# Altium footprint library CANTRICK.PcbLib: 29 footprints (part 1 of 2)
Each footprint in its own frame and in the unit in brackets; x right, y up, seen from the top. Pads: shape width x height; smd on the part's side, far side on the other; paste and mask are expansions set on the pad; w line width, h text height; cw(c..) or ccw(c..) is an arc to the next point about the centre after c.
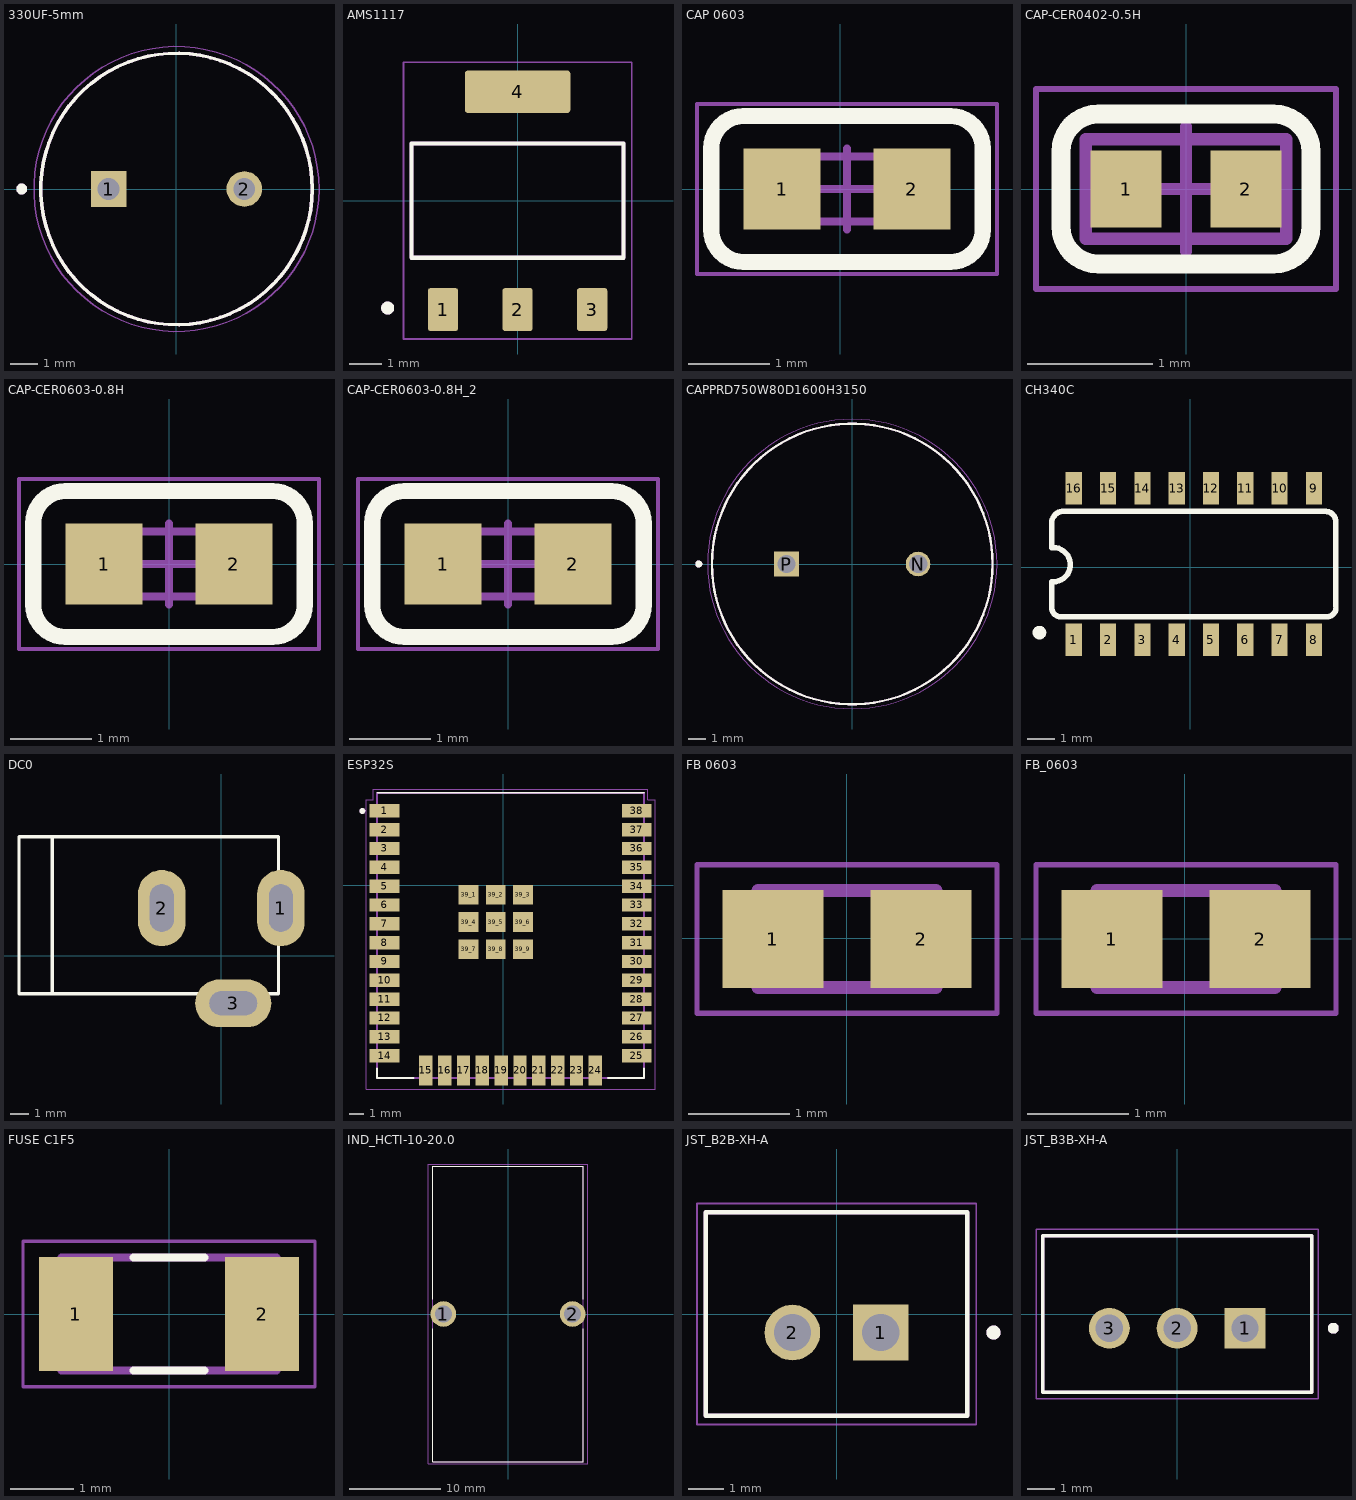
[diagram p0: the footprints below, top view; thin cyan lines are the x and y axes]

## 330UF-5mm [mm]
pads (2):
  rect 1.308x1.308 / inner round 1.308 / far side rect 1.308x1.308 hole 0.8: 1(-2.5,0)
  round 1.308 hole 0.8: 2(2.5,0)
Top Overlay:
  circle w0.2: c-5.7,0 r0.1
  circle w0.127: c0,0 r5
Top Assembly:
  circle w0.2: c-5.7,0 r0.1
  circle w0.127: c0,0 r5
Mechanical 15:
  circle w0.05: c0,0 r5.25
3D body "step_temp.STEP": height 20, standoff -19, extent -5,-4.996 5,4.996

## AMS1117 [mm]
pads (4):
  rrect15% 0.93x1.31 smd: 1(-2.29,-3.345) 2(0,-3.345) 3(2.29,-3.345)
  rrect15% 3.24x1.31 smd: 4(0,3.345)
Top Overlay:
  circle w0.2: c-3.99,-3.3 r0.1
  lines w0.127: -3.253,-1.753 -3.253,1.753 3.253,1.753 3.253,-1.753 -3.253,-1.753
Top Assembly:
  circle w0.2: c-3.99,-3.3 r0.1
  lines w0.127: -3.253,-1.753 -3.253,1.753 3.253,1.753 3.253,-1.753 -3.253,-1.753
Mechanical 15:
  lines w0.05: -3.502,-4.25 -3.502,4.25 3.502,4.25 3.502,-4.25 -3.502,-4.25
3D body "step_temp.STEP": height 1.8, standoff 0, extent -3.251,-3.499 3.251,3.499

## CAP 0603 [mm]
pads (2):
  rect 0.95x1 smd: 1(-0.715,0) 2(0.885,0)
Top Overlay:
  lines w0.2: -1.59,-0.5 ccw(c-1.19,-0.5) -1.19,-0.9 1.36,-0.9 ccw(c1.36,-0.5) 1.76,-0.5 1.76,0.5 ccw(c1.36,0.5) 1.36,0.9 -1.19,0.9 ccw(c-1.19,0.5) -1.59,0.5 -1.59,-0.5
Bottom 3D Body:
  lines w0.05: -1.765,-1.05 1.935,-1.05 1.935,1.05 -1.765,1.05 -1.765,-1.05
  lines w0.1: -0.415,0 0.585,0 ; 0.085,-0.5 0.085,0.5
Top Value:
  lines w0.1: -0.715,-0.4 0.885,-0.4 0.885,0.4 -0.715,0.4 -0.715,-0.4
  text "'.Comment'" at -3.427,-0.512 h1.6
Top Assembly:
  lines w0.1: -0.715,-0.4 0.885,-0.4 0.885,0.4 -0.715,0.4 -0.715,-0.4
  text "'.Designator'" at -3.787,-0.362 h1.6
3D body "Ceramic_Capacitor_0603_h32mil_Solder.step": height 0.82, standoff 0, extent -1.19,-0.5 1.36,0.5

## CAP-CER0402-0.5H [mm]
pads (2):
  rect 0.57x0.62 smd: 1(-0.48,0) 2(0.48,0)
Top Overlay:
  lines w0.152: -1,-0.3 ccw(c-0.7,-0.3) -0.7,-0.6 0.7,-0.6 ccw(c0.7,-0.3) 1,-0.3 1,0.3 ccw(c0.7,0.3) 0.7,0.6 -0.7,0.6 ccw(c-0.7,0.3) -1,0.3 -1,-0.3
Top Courtyard:
  lines w0.05: -1.2,-0.8 -1.2,0.8 1.2,0.8 1.2,-0.8 -1.2,-0.8
  lines w0.1: -0.5,0 0.5,0 ; 0,-0.5 0,0.5
Top Value:
  lines w0.1: -0.8,-0.4 0.8,-0.4 0.8,0.4 -0.8,0.4 -0.8,-0.4
  text "'.Comment'" at -3.512,-0.512 h1.6
Top Assembly:
  lines w0.1: -0.8,-0.4 0.8,-0.4 0.8,0.4 -0.8,0.4 -0.8,-0.4
  text "'.Designator'" at -3.872,-0.362 h1.6
Mechanical 20:
  lines w0.1: -0.8,-0.4 0.8,-0.4 0.8,0.4 -0.8,0.4 -0.8,-0.4
  text "'.Designator'" at -3.872,-0.362 h1.6
3D body "Ceramic_Capacitor_0402_h20mil_Solder.step": height 0.54, standoff 0.01, extent -0.8,-0.325 0.8,0.325

## CAP-CER0603-0.8H [mm]
pads (2):
  rect 0.95x1 smd: 1(-0.8,0) 2(0.8,0)
Top Overlay:
  lines w0.2: -1.675,-0.5 ccw(c-1.275,-0.5) -1.275,-0.9 1.275,-0.9 ccw(c1.275,-0.5) 1.675,-0.5 1.675,0.5 ccw(c1.275,0.5) 1.275,0.9 -1.275,0.9 ccw(c-1.275,0.5) -1.675,0.5 -1.675,-0.5
Top Courtyard:
  lines w0.05: -1.85,-1.05 -1.85,1.05 1.85,1.05 1.85,-1.05 -1.85,-1.05
  lines w0.1: -0.5,0 0.5,0 ; 0,-0.5 0,0.5
Top Value:
  lines w0.1: -0.8,-0.4 -0.8,0.4 0.8,0.4 0.8,-0.4 -0.8,-0.4
  text "'.Comment'" at -3.512,-0.512 h1.6
Top Assembly:
  lines w0.1: -0.8,-0.4 -0.8,0.4 0.8,0.4 0.8,-0.4 -0.8,-0.4
  text "'.Designator'" at -3.872,-0.362 h1.6
Mechanical 20:
  lines w0.1: -0.8,-0.4 -0.8,0.4 0.8,0.4 0.8,-0.4 -0.8,-0.4
  text "'.Designator'" at -3.872,-0.362 h1.6
3D body "Ceramic_Capacitor_0603_h32mil_Solder.step": height 0.84, standoff 0.03, extent -1.275,-0.5 1.275,0.5

## CAP-CER0603-0.8H_2 [mm]
pads (2):
  rect 0.95x1 smd: 1(-0.8,0) 2(0.8,0)
Top Overlay:
  lines w0.2: -1.675,-0.5 ccw(c-1.275,-0.5) -1.275,-0.9 1.275,-0.9 ccw(c1.275,-0.5) 1.675,-0.5 1.675,0.5 ccw(c1.275,0.5) 1.275,0.9 -1.275,0.9 ccw(c-1.275,0.5) -1.675,0.5 -1.675,-0.5
Top Courtyard:
  lines w0.05: -1.85,-1.05 1.85,-1.05 1.85,1.05 -1.85,1.05 -1.85,-1.05
  lines w0.1: -0.5,0 0.5,0 ; 0,-0.5 0,0.5
Top Value:
  lines w0.1: -0.8,-0.4 0.8,-0.4 0.8,0.4 -0.8,0.4 -0.8,-0.4
  text "'.Comment'" at -3.512,-0.512 h1.6
Top Assembly:
  lines w0.1: -0.8,-0.4 0.8,-0.4 0.8,0.4 -0.8,0.4 -0.8,-0.4
  text "'.Designator'" at -3.872,-0.362 h1.6
Mechanical 20:
  lines w0.1: -0.8,-0.4 0.8,-0.4 0.8,0.4 -0.8,0.4 -0.8,-0.4
  text "'.Designator'" at -3.872,-0.362 h1.6
3D body "Ceramic_Capacitor_0603_h32mil_Solder.step": height 0.84, standoff 0.03, extent -1.275,-0.5 1.275,0.5

## CAPPRD750W80D1600H3150 [mm]
pads (2):
  round 1.4 hole 1.05: N(3.75,0)
  rect 1.4x1.4 hole 1.05: P(-3.75,0)
Top Overlay:
  circle w0.2: c-8.75,0 r0.1
  circle w0.127: c0,0 r8
Top Assembly:
  circle w0.2: c-8.75,0 r0.1
  circle w0.127: c0,0 r8
Mechanical 15:
  circle w0.05: c0,0 r8.25
3D body "step_temp.STEP": height 31.5, standoff -17, extent -8,-7.999 8,7.999

## CH340C [mm]
pads (16):
  rect 0.6x1.2 smd: 1(-4.318,-2.673) 2(-3.048,-2.673) 3(-1.778,-2.673) 4(-0.508,-2.673) 5(0.762,-2.673) 6(2.032,-2.673) 7(3.302,-2.673) 8(4.572,-2.673) 9(4.572,2.927) 10(3.302,2.927) 11(2.032,2.927) 12(0.762,2.927) 13(-0.508,2.927) 14(-1.778,2.927) 15(-3.048,2.927) 16(-4.318,2.927)
Top Overlay:
  circle w0.254: c-5.588,-2.413 r0.127
  lines w0.203: -5.13,-1.541 ccw(c-4.8,-1.488) -4.747,-1.819 ; -5.131,-1.538 -5.131,-0.533 ; -5.131,0.737 -5.131,1.58 ; -5.13,1.59 cw(c-4.7,1.642) -4.753,2.073 ; -5.08,-0.533 ccw(c-5.08,0.102) -5.08,0.737 ; -4.75,-1.819 5.104,-1.819 ; -4.75,2.073 5.004,2.073 cw(c5.004,1.692) 5.385,1.692 5.385,-1.438 ; 5.106,-1.819 ccw(c5.054,-1.488) 5.384,-1.436
Top Assembly:
  region: 4.826,2.413 4.318,2.413 4.318,3.429 4.826,3.429
  region: 3.556,2.413 3.048,2.413 3.048,3.429 3.556,3.429
  region: 2.286,2.413 1.778,2.413 1.778,3.429 2.286,3.429
  region: 1.016,2.413 0.508,2.413 0.508,3.429 1.016,3.429
  region: -0.254,2.413 -0.762,2.413 -0.762,3.429 -0.254,3.429
  region: -1.524,2.413 -2.032,2.413 -2.032,3.429 -1.524,3.429
  region: -2.794,2.413 -3.302,2.413 -3.302,3.429 -2.794,3.429
  region: -4.064,2.413 -4.572,2.413 -4.572,3.492 -4.064,3.492
  region: 4.826,-3.175 4.318,-3.175 4.318,-2.146 4.826,-2.146
  region: 3.556,-3.175 3.048,-3.175 3.048,-2.146 3.556,-2.146
  region: 2.286,-3.175 1.778,-3.175 1.778,-2.146 2.286,-2.146
  region: 1.016,-3.175 0.508,-3.175 0.508,-2.146 1.016,-2.146
  region: -0.254,-3.175 -0.762,-3.175 -0.762,-2.146 -0.254,-2.146
  region: -1.524,-3.175 -2.032,-3.175 -2.032,-2.146 -1.524,-2.146
  region: -2.794,-3.175 -3.302,-3.175 -3.302,-2.146 -2.794,-2.146
  region: -4.064,-3.175 -4.572,-3.175 -4.572,-2.146 -4.064,-2.146
3D body "step_temp.STEP": height 1.8, standoff 0, extent -4.873,-2.873 5.127,3.127

## DC0 [mil]
pads (3):
  oval 100x160 hole 50 slot 100 at 90 deg: 1(125,100) 2(-125,100)
  oval 160x100 hole 50 slot 100 at 0 deg: 3(25,-100)
Top Overlay:
  lines w7: -355,-80 -355,250 ; -425,-80 120,-80 120,250 -425,250 -425,-80
3D body "SW3dPS-dc range - dc connector[4840.2201].STEP": height 433.67, standoff -137.2, extent -410.35,-105.11 134,269.12

## ESP32S [mm]
pads (47):
  rect 2x0.9 smd: 1(-7.992,5.006) 2(-7.992,3.736) 3(-7.992,2.466) 4(-7.992,1.196) 5(-7.992,-0.074) 6(-7.992,-1.344) 7(-7.992,-2.614) 8(-7.992,-3.884) 9(-7.992,-5.154) 10(-7.992,-6.424) 11(-7.992,-7.694) 12(-7.992,-8.964) 13(-7.992,-10.234) 14(-7.992,-11.504) 25(9.008,-11.504) 26(9.008,-10.234) 27(9.008,-8.964) 28(9.008,-7.694) 29(9.008,-6.424) 30(9.008,-5.154) 31(9.008,-3.884) 32(9.008,-2.614) 33(9.008,-1.344) 34(9.008,-0.074) 35(9.008,1.196) 36(9.008,2.466) 37(9.008,3.736) 38(9.008,5.006)
  rect 0.9x2 smd: 15(-5.207,-12.504) 16(-3.937,-12.504) 17(-2.667,-12.504) 18(-1.397,-12.504) 19(-0.127,-12.504) 20(1.143,-12.504) 21(2.413,-12.504) 22(3.683,-12.504) 23(4.953,-12.504) 24(6.223,-12.504)
  rect 1.33x1.33 smd: 39_1(-2.327,-0.659) 39_2(-0.492,-0.659) 39_3(1.343,-0.659) 39_4(-2.327,-2.494) 39_5(-0.492,-2.494) 39_6(1.343,-2.494) 39_7(-2.327,-4.329) 39_8(-0.492,-4.329) 39_9(1.343,-4.329)
Top Overlay:
  circle w0.2: c-9.492,4.996 r0.1
  lines w0.127: -8.492,-12.354 -8.492,-13.004 -6.042,-13.004 ; -8.475,6.223 9.525,6.223 ; 7.058,-13.004 9.508,-13.004 9.508,-12.354
Top Assembly:
  circle w0.2: c-9.492,4.996 r0.1
  lines w0.127: -8.492,6.196 9.508,6.196 ; -8.492,6.196 -8.492,-13.004 9.508,-13.004 9.508,6.196 ; -8.492,6.196 9.508,6.196
Mechanical 15:
  lines w0.05: -9.242,-13.754 10.258,-13.754 10.258,5.746 9.758,5.746 9.758,6.477 -8.742,6.477 -8.742,5.746 -9.242,5.746 -9.242,-13.754
3D body "ESP32WROOM32UEN8--3DModel-STEP-269445.STEP": height 3.35, standoff 0, extent -8.492,-13.028 9.508,6.172

## FB 0603 [mm]
pads (2):
  rect 1x0.97 smd: 1(-0.733,-0.006) 2(0.737,-0.006)
Top Assembly:
  lines w0.127: -0.878,-0.486 -0.878,0.474 0.882,0.474 0.882,-0.486 -0.878,-0.486
Mechanical 15:
  lines w0.05: -1.483,-0.741 -1.483,0.729 1.487,0.729 1.487,-0.741 -1.483,-0.741
3D body "BLM18KG121TN1D.STEP": height 0.75, standoff 0, extent -0.788,-0.361 0.812,0.439

## FB_0603 [mm]
pads (2):
  rect 1x0.97 smd: 1(-0.723,-0.002) 2(0.747,-0.002)
Top Assembly:
  lines w0.127: -0.868,-0.482 -0.868,0.478 0.892,0.478 0.892,-0.482 -0.868,-0.482
Mechanical 15:
  lines w0.05: -1.473,-0.737 -1.473,0.733 1.497,0.733 1.497,-0.737 -1.473,-0.737
3D body "BLM18KG121TN1D.STEP": height 0.75, standoff 0, extent -0.778,-0.357 0.822,0.443

## FUSE C1F5 [mm]
pads (2):
  rect 1.17x1.8 smd: 1(-1.47,0) 2(1.47,0)
Top Overlay:
  lines w0.127: -0.56,-0.89 0.56,-0.89 ; -0.56,0.89 0.56,0.89
Top Assembly:
  lines w0.127: -1.7,-0.89 -1.7,0.89 1.7,0.89 1.7,-0.89 -1.7,-0.89
Mechanical 15:
  lines w0.05: -2.305,-1.15 -2.305,1.15 2.305,1.15 2.305,-1.15 -2.305,-1.15
3D body "C1F 5.step": height 0.8, standoff -0.03, extent -1.652,-0.8 1.548,0.78

## IND_HCTI-10-20.0 [mm]
height 32.51
pads (2):
  round 2.82 hole 1.88: 1(-7.112,0) 2(7.112,0)
Top Overlay:
  lines w0.127: -8.255,-1.6 -8.255,-16.256 8.255,-16.256 8.255,-1.6 ; -8.255,1.6 -8.255,16.256 8.255,16.256 8.255,1.6
Top Assembly:
  lines w0.127: -8.255,-16.256 8.255,-16.256 8.255,16.256 -8.255,16.256 -8.255,-16.256
Mechanical 15:
  lines w0.05: -8.78,-16.506 8.78,-16.506 8.78,16.506 -8.78,16.506 -8.78,-16.506
3D body "step_temp.STEP": height 34.1, standoff -10.16, extent -8.255,-16.211 8.255,16.211

## JST_B2B-XH-A [mm]
height 7
pads (2):
  rect 1.575x1.575 / inner round 1.575 / far side rect 1.575x1.575 hole 1.05: 1(1.25,-0.525)
  round 1.575 hole 1.05: 2(-1.25,-0.525)
Top Overlay:
  circle w0.2: c4.44,-0.525 r0.1
  lines w0.127: -3.7,-2.875 -3.7,2.875 3.7,2.875 3.7,-2.875 -3.7,-2.875
Top Assembly:
  circle w0.2: c4.44,-0.525 r0.1
  lines w0.127: -3.7,-2.875 -3.7,2.875 3.7,2.875 3.7,-2.875 -3.7,-2.875
Mechanical 15:
  lines w0.05: -3.95,-3.125 3.95,-3.125 3.95,3.125 -3.95,3.125 -3.95,-3.125

## JST_B3B-XH-A [mm]
height 7
pads (3):
  rect 1.508x1.508 / inner round 1.508 / far side rect 1.508x1.508 hole 1: 1(2.5,-0.525)
  round 1.508 hole 1: 2(0,-0.525) 3(-2.5,-0.525)
Top Overlay:
  circle w0.2: c5.75,-0.525 r0.1
  lines w0.127: -4.95,-2.875 -4.95,2.875 4.95,2.875 4.95,-2.875 -4.95,-2.875
Top Assembly:
  circle w0.2: c5.75,-0.525 r0.1
  lines w0.127: -4.95,-2.875 -4.95,2.875 4.95,2.875 4.95,-2.875 -4.95,-2.875
Mechanical 15:
  lines w0.05: -5.2,-3.125 -5.2,3.125 5.2,3.125 5.2,-3.125 -5.2,-3.125
3D body "step_temp.STEP": height 7, standoff -3.4, extent -4.95,-2.875 4.95,2.875